# Altium footprint library INDPM9785X300N.PcbLib: 1 footprints
Each footprint in its own frame and in the unit in brackets; x right, y up, seen from the top. Pads: shape width x height; smd on the part's side, far side on the other; paste and mask are expansions set on the pad; w line width, h text height; cw(c..) or ccw(c..) is an arc to the next point about the centre after c.
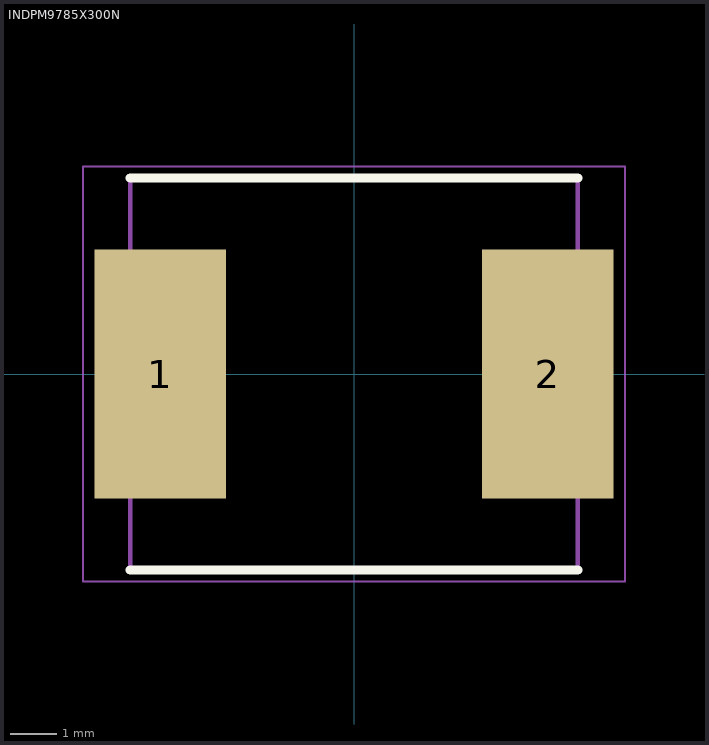
[diagram p0: the footprint, top view; thin cyan lines are the x and y axes]

## INDPM9785X300N [mm]
pads (2):
  rect 2.85x5.4 smd: 1(-4.2,0) 2(4.2,0)
Top Overlay:
  lines w0.2: -4.85,-4.25 4.85,-4.25 ; -4.85,4.25 4.85,4.25
Mechanical 15:
  lines w0.1: -4.85,-4.25 4.85,-4.25 4.85,4.25 -4.85,4.25 -4.85,-4.25
Mechanical 20:
  lines w0.05: -5.875,-4.5 5.875,-4.5 5.875,4.5 -5.875,4.5 -5.875,-4.5